# Altium footprint library camera-modules.PcbLib: 22 footprints (part 1 of 2)
Each footprint in its own frame and in the unit in brackets; x right, y up, seen from the top. Pads: shape width x height; smd on the part's side, far side on the other; paste and mask are expansions set on the pad; w line width, h text height; cw(c..) or ccw(c..) is an arc to the next point about the centre after c.
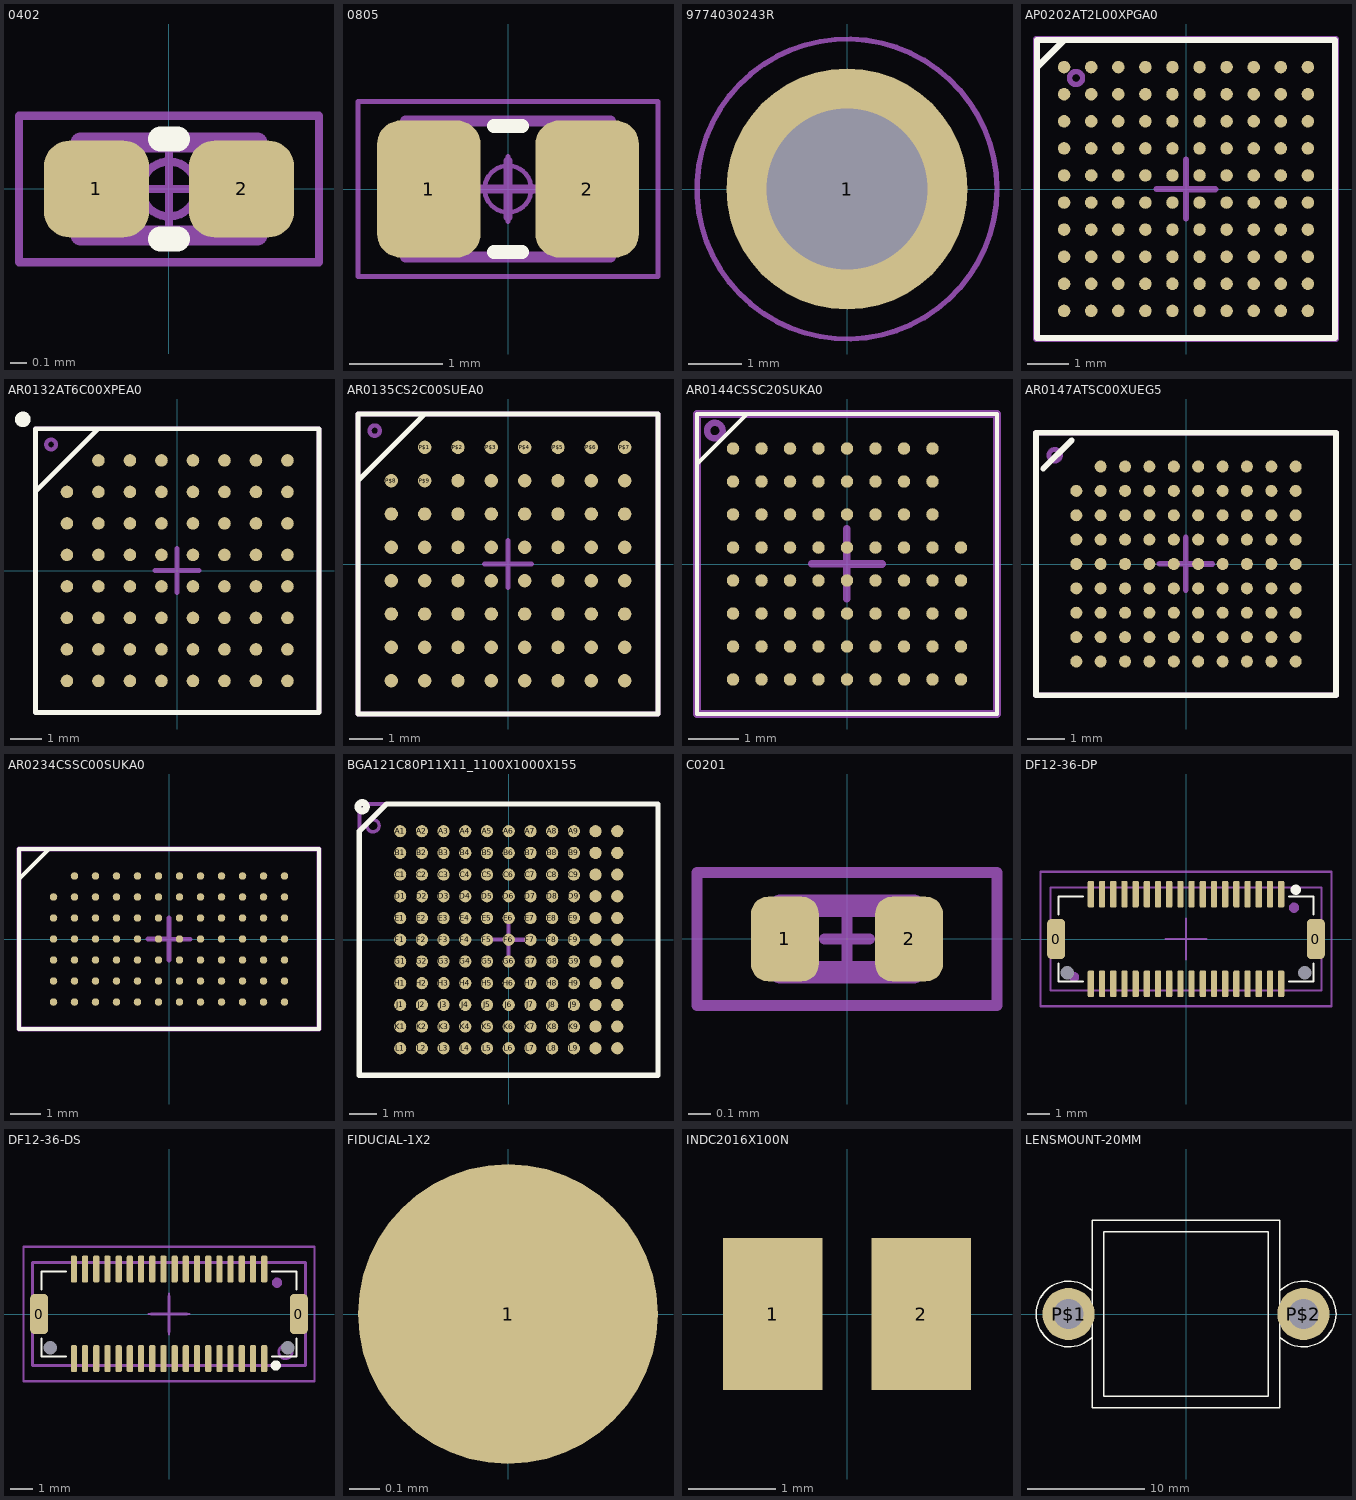
[diagram p0: the footprints below, top view; thin cyan lines are the x and y axes]

## 0402 [mm] "Chip Capacitor, 2-Leads, Body  0402 (in) 1005 (mm), IPC Medium Density"
height 0.5
pads (2):
  rrect52% 0.63x0.58 smd mask+0.05: 1(-0.435,0) 2(0.435,0)
Top Overlay:
  lines w0.15: -0.05,-0.3 0.05,-0.3 ; -0.05,0.3 0.05,0.3
Mechanical 13:
  lines w0.12: -0.53,-0.28 0.53,-0.28 0.53,0.28 -0.53,0.28 -0.53,-0.28
  text ".designator" at -0.432,-0.178 h0.3
Mechanical 15:
  circle w0.05: c0,0 r0.165
  lines w0.05: -0.22,0 0.22,0 ; 0,-0.22 0,0.22 ; -0.9,-0.44 0.9,-0.44 0.9,0.44 -0.9,0.44 -0.9,-0.44
3D body "CAP-0402.stp": height 0.5, standoff 0, extent -0.5,-0.25 0.5,0.25

## 0805 [mm] "Chip Capacitor, Body 0805 imperial, 2.0x1.2mm, IPC Medium Density"
height 0.7
pads (2):
  rrect45% 1.11x1.47 smd: 1(-0.85,0) 2(0.85,0)
Top Overlay:
  lines w0.15: -0.15,-0.675 0.15,-0.675 ; -0.15,0.675 0.15,0.675
Mechanical 13:
  lines w0.1: -0.3,0 0,0 ; 0,-0.3 0,0 ; 0,0.3 0,0 ; 0.3,0 0,0
  lines w0.12: -1.1,-0.73 -1.1,0.73 1.1,0.73 1.1,-0.73 -1.1,-0.73
  text ".designator" at -1,-0.625 h0.3
Mechanical 15:
  circle w0.05: c0,0 r0.25
  lines w0.05: -0.35,0 0.35,0 ; 0,-0.35 0,0.35 ; -1.61,-0.94 -1.61,0.94 1.61,0.94 1.61,-0.94 -1.61,-0.94
3D body "CAP-0805.stp": height 1.25, standoff 0, extent -1,-0.625 1,0.625

## 9774030243R [mm] "Round Standoff Threaded M2x0.4 Steel 0.118\" (3.00mm)"
pads (1):
  round 4.5 hole 3 unplated mask+0.05: 1(0,0)
Top Paste:
  circle w3: c0,0 r0.707
Mechanical 13:
  circle w0.1: c0,0 r1.25
  circle w0.1: c0,0 r2.175
  lines w0.1: -1.25,0 0,0 ; 0,-1.25 0,0 ; 0,1.25 0,0 ; 1.25,0 0,0
  text ".designator" at -0.9,1.3 h0.5
Mechanical 15:
  circle w0.1: c0,0 r2.8
  lines w0.1: -1.25,0 0,0 ; 0,-1.25 0,0 ; 0,1.25 0,0 ; 1.25,0 0,0
3D body "9774030243R (rev1).stp": height 3.01, standoff -1.39, extent -2.175,-2.172 2.175,2.172

## AP0202AT2L00XPGA0 [mm] "AP0202AT2L00XPGA0"
pads (100):
  rrect100% 0.3x0.3 smd: P$1(-2.925,2.925) P$2(-2.275,2.925) P$3(-1.625,2.925) P$4(-0.975,2.925) P$5(-0.325,2.925) P$6(0.325,2.925) P$7(0.975,2.925) P$8(1.625,2.925) P$9(2.275,2.925) P$10(2.925,2.925) P$11(-2.925,2.275) P$12(-2.275,2.275) P$13(-1.625,2.275) P$14(-0.975,2.275) P$15(-0.325,2.275) P$16(0.325,2.275) P$17(0.975,2.275) P$18(1.625,2.275) P$19(2.275,2.275) P$20(2.925,2.275) P$21(-2.925,1.625) P$22(-2.275,1.625) P$23(-1.625,1.625) P$24(-0.975,1.625) P$25(-0.325,1.625) P$26(0.325,1.625) P$27(0.975,1.625) P$28(1.625,1.625) P$29(2.275,1.625) P$30(2.925,1.625) P$31(-2.925,0.975) P$32(-2.275,0.975) P$33(-1.625,0.975) P$34(-0.975,0.975) P$35(-0.325,0.975) P$36(0.325,0.975) P$37(0.975,0.975) P$38(1.625,0.975) P$39(2.275,0.975) P$40(2.925,0.975) P$41(-2.925,0.325) P$42(-2.275,0.325) P$43(-1.625,0.325) P$44(-0.975,0.325) P$45(-0.325,0.325) P$46(0.325,0.325) P$47(0.975,0.325) P$48(1.625,0.325) P$49(2.275,0.325) P$50(2.925,0.325) P$51(-2.925,-0.325) P$52(-2.275,-0.325) P$53(-1.625,-0.325) P$54(-0.975,-0.325) P$55(-0.325,-0.325) P$56(0.325,-0.325) P$57(0.975,-0.325) P$58(1.625,-0.325) P$59(2.275,-0.325) P$60(2.925,-0.325) P$61(-2.925,-0.975) P$62(-2.275,-0.975) P$63(-1.625,-0.975) P$64(-0.975,-0.975) P$65(-0.325,-0.975) P$66(0.325,-0.975) P$67(0.975,-0.975) P$68(1.625,-0.975) P$69(2.275,-0.975) P$70(2.925,-0.975) P$71(-2.925,-1.625) P$72(-2.275,-1.625) P$73(-1.625,-1.625) P$74(-0.975,-1.625) P$75(-0.325,-1.625) P$76(0.325,-1.625) P$77(0.975,-1.625) P$78(1.625,-1.625) P$79(2.275,-1.625) P$80(2.925,-1.625) P$81(-2.925,-2.275) P$82(-2.275,-2.275) P$83(-1.625,-2.275) P$84(-0.975,-2.275) P$85(-0.325,-2.275) P$86(0.325,-2.275) P$87(0.975,-2.275) P$88(1.625,-2.275) P$89(2.275,-2.275) P$90(2.925,-2.275) P$91(-2.925,-2.925) P$92(-2.275,-2.925) P$93(-1.625,-2.925) P$94(-0.975,-2.925) P$95(-0.325,-2.925) P$96(0.325,-2.925) P$97(0.975,-2.925) P$98(1.625,-2.925) P$99(2.275,-2.925) P$100(2.925,-2.925)
Top Overlay:
  lines w0.152: -3.575,2.925 -2.925,3.575 ; -3.575,2.925 -3.575,3.575 -2.925,3.575 ; -3.575,2.925 -3.575,-3.575 3.575,-3.575 3.575,3.575 -2.925,3.575
Mechanical 13:
  circle w0.127: c-2.639,2.664 r0.156
  lines w0.152: -0.7,0 0,0 ; 0,-0.7 0,0 ; 0,0.7 0,0 ; 0.004,-0.004 0.704,-0.004 ; -3.6,-3.6 3.6,-3.6 3.6,3.6 -3.6,3.6 -3.6,-3.6
  text ".designator" at -2.196,1.246 h0.64
3D body: height 1, standoff 0, extent -3.6,-3.6 3.6,3.6

## AR0132AT6C00XPEA0 [mm] "AR0132AT6C00XPEA0"
pads (63):
  rrect100% 0.4x0.4 smd: P$1(-2.5,3.5) P$2(-1.5,3.5) P$3(-0.5,3.5) P$4(0.5,3.5) P$5(1.5,3.5) P$6(2.5,3.5) P$7(3.5,3.5) P$8(-3.5,2.5) P$9(-2.5,2.5) P$10(-1.5,2.5) P$11(-0.5,2.5) P$12(0.5,2.5) P$13(1.5,2.5) P$14(2.5,2.5) P$15(3.5,2.5) P$16(-3.5,1.5) P$17(-2.5,1.5) P$18(-1.5,1.5) P$19(-0.5,1.5) P$20(0.5,1.5) P$21(1.5,1.5) P$22(2.5,1.5) P$23(3.5,1.5) P$24(-3.5,0.5) P$25(-2.5,0.5) P$26(-1.5,0.5) P$27(-0.5,0.5) P$28(0.5,0.5) P$29(1.5,0.5) P$30(2.5,0.5) P$31(3.5,0.5) P$32(-3.5,-0.5) P$33(-2.5,-0.5) P$34(-1.5,-0.5) P$35(-0.5,-0.5) P$36(0.5,-0.5) P$37(1.5,-0.5) P$38(2.5,-0.5) P$39(3.5,-0.5) P$40(-3.5,-1.5) P$41(-2.5,-1.5) P$42(-1.5,-1.5) P$43(-0.5,-1.5) P$44(0.5,-1.5) P$45(1.5,-1.5) P$46(2.5,-1.5) P$47(3.5,-1.5) P$48(-3.5,-2.5) P$49(-2.5,-2.5) P$50(-1.5,-2.5) P$51(-0.5,-2.5) P$52(0.5,-2.5) P$53(1.5,-2.5) P$54(2.5,-2.5) P$55(3.5,-2.5) P$56(-3.5,-3.5) P$57(-2.5,-3.5) P$58(-1.5,-3.5) P$59(-0.5,-3.5) P$60(0.5,-3.5) P$61(1.5,-3.5) P$62(2.5,-3.5) P$63(3.5,-3.5)
Top Overlay:
  circle w0.25: c-4.9,4.8 r0.121
  lines w0.152: -4.5,2.5 -4.5,-4.5 4.5,-4.5 4.5,4.5 -2.5,4.5 ; -4.5,2.5 -4.5,4.5 -2.5,4.5 ; -4.5,2.5 -2.5,4.5
Mechanical 13:
  circle w0.127: c-4.004,4.004 r0.156
  lines w0.152: -0.704,0.004 -0.004,0.004 ; -0.004,-0.696 -0.004,0.004 ; -0.004,0.704 -0.004,0.004 ; 0,0 0.7,0 ; -4.504,-4.496 -4.504,4.504 4.496,4.504 4.496,-4.496 -4.504,-4.496
  text ".designator" at -4.104,-4.546 h0.64
3D body: height 1, standoff 0, extent -4.504,-4.496 4.496,4.504

## AR0135CS2C00SUEA0 [mm] "AR0135CS2C00SUEA0"
pads (63):
  rrect100% 0.4x0.4 smd: P$1(-2.5,3.5) P$2(-1.5,3.5) P$3(-0.5,3.5) P$4(0.5,3.5) P$5(1.5,3.5) P$6(2.5,3.5) P$7(3.5,3.5) P$8(-3.5,2.5) P$9(-2.5,2.5) P$10(-1.5,2.5) P$11(-0.5,2.5) P$12(0.5,2.5) P$13(1.5,2.5) P$14(2.5,2.5) P$15(3.5,2.5) P$16(-3.5,1.5) P$17(-2.5,1.5) P$18(-1.5,1.5) P$19(-0.5,1.5) P$20(0.5,1.5) P$21(1.5,1.5) P$22(2.5,1.5) P$23(3.5,1.5) P$24(-3.5,0.5) P$25(-2.5,0.5) P$26(-1.5,0.5) P$27(-0.5,0.5) P$28(0.5,0.5) P$29(1.5,0.5) P$30(2.5,0.5) P$31(3.5,0.5) P$32(-3.5,-0.5) P$33(-2.5,-0.5) P$34(-1.5,-0.5) P$35(-0.5,-0.5) P$36(0.5,-0.5) P$37(1.5,-0.5) P$38(2.5,-0.5) P$39(3.5,-0.5) P$40(-3.5,-1.5) P$41(-2.5,-1.5) P$42(-1.5,-1.5) P$43(-0.5,-1.5) P$44(0.5,-1.5) P$45(1.5,-1.5) P$46(2.5,-1.5) P$47(3.5,-1.5) P$48(-3.5,-2.5) P$49(-2.5,-2.5) P$50(-1.5,-2.5) P$51(-0.5,-2.5) P$52(0.5,-2.5) P$53(1.5,-2.5) P$54(2.5,-2.5) P$55(3.5,-2.5) P$56(-3.5,-3.5) P$57(-2.5,-3.5) P$58(-1.5,-3.5) P$59(-0.5,-3.5) P$60(0.5,-3.5) P$61(1.5,-3.5) P$62(2.5,-3.5) P$63(3.5,-3.5)
Top Overlay:
  lines w0.152: -4.5,2.5 -2.5,4.5 ; -4.5,2.5 -4.5,4.5 -2.5,4.5 ; -4.5,2.5 -4.5,-4.5 4.5,-4.5 4.5,4.5 -2.5,4.5
Mechanical 13:
  circle w0.127: c-4,4 r0.156
  lines w0.152: -0.7,0 0,0 ; 0,-0.7 0,0 ; 0,0.7 0,0 ; 0.004,-0.004 0.704,-0.004 ; -4.5,-4.5 -4.5,4.5 4.5,4.5 4.5,-4.5 -4.5,-4.5
  text ".designator" at -4.1,-4.55 h0.64
3D body: height 1, standoff 0, extent -4.5,-4.5 4.5,4.5

## AR0144CSSC20SUKA0 [mm] "AR0144CSSC20SUKA0"
pads (69):
  rrect100% 0.25x0.25 smd: P$1(-2.28,2.31) P$2(-1.71,2.31) P$3(-1.14,2.31) P$4(-0.57,2.31) P$5(0,2.31) P$6(0.57,2.31) P$7(1.14,2.31) P$8(1.71,2.31) P$9(-2.28,1.65) P$10(-1.71,1.65) P$11(-1.14,1.65) P$12(-0.57,1.65) P$13(0,1.65) P$14(0.57,1.65) P$15(1.14,1.65) P$16(1.71,1.65) P$17(-2.28,0.99) P$18(-1.71,0.99) P$19(-1.14,0.99) P$20(-0.57,0.99) P$21(0,0.99) P$22(0.57,0.99) P$23(1.14,0.99) P$24(1.71,0.99) P$25(-2.28,0.33) P$26(-1.71,0.33) P$27(-1.14,0.33) P$28(-0.57,0.33) P$29(0,0.33) P$30(0.57,0.33) P$31(1.14,0.33) P$32(1.71,0.33) P$33(2.28,0.33) P$34(-2.28,-0.33) P$35(-1.71,-0.33) P$36(-1.14,-0.33) P$37(-0.57,-0.33) P$38(0,-0.33) P$39(0.57,-0.33) P$40(1.14,-0.33) P$41(1.71,-0.33) P$42(2.28,-0.33) P$43(-2.28,-0.99) P$44(-1.71,-0.99) P$45(-1.14,-0.99) P$46(-0.57,-0.99) P$47(0,-0.99) P$48(0.57,-0.99) P$49(1.14,-0.99) P$50(1.71,-0.99) P$51(2.28,-0.99) P$52(-2.28,-1.65) P$53(-1.71,-1.65) P$54(-1.14,-1.65) P$55(-0.57,-1.65) P$56(0,-1.65) P$57(0.57,-1.65) P$58(1.14,-1.65) P$59(1.71,-1.65) P$60(2.28,-1.65) P$61(-2.28,-2.31) P$62(-1.71,-2.31) P$63(-1.14,-2.31) P$64(-0.57,-2.31) P$65(0,-2.31) P$66(0.57,-2.31) P$67(1.14,-2.31) P$68(1.71,-2.31) P$69(2.28,-2.31)
Top Overlay:
  lines w0.076: -3,2 -3,3 -2,3 ; -3,2 -3,-3 3,-3 3,3 -2,3 ; -3,2 -2,3
Mechanical 13:
  circle w0.127: c-2.643,2.668 r0.156
  lines w0.152: -0.704,0.004 -0.004,0.004 ; -0.004,-0.696 -0.004,0.004 ; -0.004,0.704 -0.004,0.004 ; 0,0 0.7,0 ; -3,-3 -3,3 3,3 3,-3 -3,-3
  text ".designator" at -2.2,1.25 h0.64
3D body: height 1, standoff 0, extent -3,-3 3,3

## AR0147ATSC00XUEG5 [mm] "AR0147ATSC00XUEG5"
pads (89):
  rrect100% 0.32x0.32 smd: P$1(-2.275,2.6) P$2(-1.625,2.6) P$3(-0.975,2.6) P$4(-0.325,2.6) P$5(0.325,2.6) P$6(0.975,2.6) P$7(1.625,2.6) P$8(2.275,2.6) P$9(2.925,2.6) P$10(-2.925,1.95) P$11(-2.275,1.95) P$12(-1.625,1.95) P$13(-0.975,1.95) P$14(-0.325,1.95) P$15(0.325,1.95) P$16(0.975,1.95) P$17(1.625,1.95) P$18(2.275,1.95) P$19(2.925,1.95) P$20(-2.925,1.3) P$21(-2.275,1.3) P$22(-1.625,1.3) P$23(-0.975,1.3) P$24(-0.325,1.3) P$25(0.325,1.3) P$26(0.975,1.3) P$27(1.625,1.3) P$28(2.275,1.3) P$29(2.925,1.3) P$30(-2.925,0.65) P$31(-2.275,0.65) P$32(-1.625,0.65) P$33(-0.975,0.65) P$34(-0.325,0.65) P$35(0.325,0.65) P$36(0.975,0.65) P$37(1.625,0.65) P$38(2.275,0.65) P$39(2.925,0.65) P$40(-2.925,0) P$41(-2.275,0) P$42(-1.625,0) P$43(-0.975,0) P$44(-0.325,0) P$45(0.325,0) P$46(0.975,0) P$47(1.625,0) P$48(2.275,0) P$49(2.925,0) P$50(-2.925,-0.65) P$51(-2.275,-0.65) P$52(-1.625,-0.65) P$53(-0.975,-0.65) P$54(-0.325,-0.65) P$55(0.325,-0.65) P$56(0.975,-0.65) P$57(1.625,-0.65) P$58(2.275,-0.65) P$59(2.925,-0.65) P$60(-2.925,-1.3) P$61(-2.275,-1.3) P$62(-1.625,-1.3) P$63(-0.975,-1.3) P$64(-0.325,-1.3) P$65(0.325,-1.3) P$66(0.975,-1.3) P$67(1.625,-1.3) P$68(2.275,-1.3) P$69(2.925,-1.3) P$70(-2.925,-1.95) P$71(-2.275,-1.95) P$72(-1.625,-1.95) P$73(-0.975,-1.95) P$74(-0.325,-1.95) P$75(0.325,-1.95) P$76(0.975,-1.95) P$77(1.625,-1.95) P$78(2.275,-1.95) P$79(2.925,-1.95) P$80(-2.925,-2.6) P$81(-2.275,-2.6) P$82(-1.625,-2.6) P$83(-0.975,-2.6) P$84(-0.325,-2.6) P$85(0.325,-2.6) P$86(0.975,-2.6) P$87(1.625,-2.6) P$88(2.275,-2.6) P$89(2.925,-2.6)
Top Overlay:
  lines w0.152: -3.81,2.54 -3.048,3.302 ; -4,-3.5 -4,3.5 4,3.5 4,-3.5 -4,-3.5
Mechanical 13:
  circle w0.127: c-3.5,2.9 r0.156
  lines w0.152: -0.704,0.004 -0.004,0.004 ; -0.004,-0.696 -0.004,0.004 ; -0.004,0.704 -0.004,0.004 ; 0,0 0.7,0 ; -4,-3.5 -4,3.5 4,3.5 4,-3.5 -4,-3.5
  text ".designator" at -3,2.05 h0.64
3D body: height 1, standoff 0, extent -4,-3.5 4,3.5

## AR0234CSSC00SUKA0 [mm] "AR0234CSSC00SUKA0"
pads (83):
  rrect100% 0.25x0.25 smd mask+0.051: P$1(-3.15,2.1) P$2(-2.45,2.1) P$3(-1.75,2.1) P$4(-1.05,2.1) P$5(-0.35,2.1) P$6(0.35,2.1) P$7(1.05,2.1) P$8(1.75,2.1) P$9(2.45,2.1) P$10(3.15,2.1) P$11(3.85,2.1) P$12(-3.85,1.4) P$13(-3.15,1.4) P$14(-2.45,1.4) P$15(-1.75,1.4) P$16(-1.05,1.4) P$17(-0.35,1.4) P$18(0.35,1.4) P$19(1.05,1.4) P$20(1.75,1.4) P$21(2.45,1.4) P$22(3.15,1.4) P$23(3.85,1.4) P$24(-3.85,0.7) P$25(-3.15,0.7) P$26(-2.45,0.7) P$27(-1.75,0.7) P$28(-1.05,0.7) P$29(-0.35,0.7) P$30(0.35,0.7) P$31(1.05,0.7) P$32(1.75,0.7) P$33(2.45,0.7) P$34(3.15,0.7) P$35(3.85,0.7) P$36(-3.85,0) P$37(-3.15,0) P$38(-2.45,0) P$39(-1.75,0) P$40(-1.05,0) P$41(-0.35,0) P$42(0.35,0) P$43(1.05,0) P$44(1.75,0) P$45(2.45,0) P$46(3.15,0) P$47(3.85,0) P$48(-3.85,-0.7) P$49(-3.15,-0.7) P$50(-2.45,-0.7) P$51(-1.75,-0.7) P$52(-1.05,-0.7) P$53(-0.35,-0.7) P$54(0.35,-0.7) P$55(1.05,-0.7) P$56(1.75,-0.7) P$57(2.45,-0.7) P$58(3.15,-0.7) P$59(3.85,-0.7) P$60(-3.85,-1.4) P$61(-3.15,-1.4) P$62(-2.45,-1.4) P$63(-1.75,-1.4) P$64(-1.05,-1.4) P$65(-0.35,-1.4) P$66(0.35,-1.4) P$67(1.05,-1.4) P$68(1.75,-1.4) P$69(2.45,-1.4) P$70(3.15,-1.4) P$71(3.85,-1.4) P$72(-3.85,-2.1) P$73(-3.15,-2.1) P$74(-2.45,-2.1) P$75(-1.75,-2.1) P$76(-1.05,-2.1) P$77(-0.35,-2.1) P$78(0.35,-2.1) P$79(1.05,-2.1) P$80(1.75,-2.1) P$81(2.45,-2.1) P$82(3.15,-2.1) P$83(3.85,-2.1)
Top Overlay:
  lines w0.127: -5,2 -5,-3 5,-3 5,3 -4,3 ; -5,2 -5,3 -4,3 ; -5,2 -4,3
Mechanical 13:
  lines w0.152: -0.7,0 0,0 ; 0,-0.7 0,0 ; 0,0.7 0,0 ; 0.004,-0.004 0.704,-0.004 ; -5,-3 -5,3 5,3 5,-3 -5,-3
  text ".designator" at -3.3,1.15 h0.64
3D body: height 1, standoff 0, extent -5,-3 5,3

## BGA121C80P11X11_1100X1000X155 [mm] "BGA121C80P11X11_1100X1000X155"
pads (121):
  rrect100% 0.45x0.45 smd: A1(-4,4) A2(-3.2,4) A3(-2.4,4) A4(-1.6,4) A5(-0.8,4) A6(0,4) A7(0.8,4) A8(1.6,4) A9(2.4,4) A10(3.2,4) A11(4,4) B1(-4,3.2) B2(-3.2,3.2) B3(-2.4,3.2) B4(-1.6,3.2) B5(-0.8,3.2) B6(0,3.2) B7(0.8,3.2) B8(1.6,3.2) B9(2.4,3.2) B10(3.2,3.2) B11(4,3.2) C1(-4,2.4) C2(-3.2,2.4) C3(-2.4,2.4) C4(-1.6,2.4) C5(-0.8,2.4) C6(0,2.4) C7(0.8,2.4) C8(1.6,2.4) C9(2.4,2.4) C10(3.2,2.4) C11(4,2.4) D1(-4,1.6) D2(-3.2,1.6) D3(-2.4,1.6) D4(-1.6,1.6) D5(-0.8,1.6) D6(0,1.6) D7(0.8,1.6) D8(1.6,1.6) D9(2.4,1.6) D10(3.2,1.6) D11(4,1.6) E1(-4,0.8) E2(-3.2,0.8) E3(-2.4,0.8) E4(-1.6,0.8) E5(-0.8,0.8) E6(0,0.8) E7(0.8,0.8) E8(1.6,0.8) E9(2.4,0.8) E10(3.2,0.8) E11(4,0.8) F1(-4,0) F2(-3.2,0) F3(-2.4,0) F4(-1.6,0) F5(-0.8,0) F6(0,0) F7(0.8,0) F8(1.6,0) F9(2.4,0) F10(3.2,0) F11(4,0) G1(-4,-0.8) G2(-3.2,-0.8) G3(-2.4,-0.8) G4(-1.6,-0.8) G5(-0.8,-0.8) G6(0,-0.8) G7(0.8,-0.8) G8(1.6,-0.8) G9(2.4,-0.8) G10(3.2,-0.8) G11(4,-0.8) H1(-4,-1.6) H2(-3.2,-1.6) H3(-2.4,-1.6) H4(-1.6,-1.6) H5(-0.8,-1.6) H6(0,-1.6) H7(0.8,-1.6) H8(1.6,-1.6) H9(2.4,-1.6) H10(3.2,-1.6) H11(4,-1.6) J1(-4,-2.4) J2(-3.2,-2.4) J3(-2.4,-2.4) J4(-1.6,-2.4) J5(-0.8,-2.4) J6(0,-2.4) J7(0.8,-2.4) J8(1.6,-2.4) J9(2.4,-2.4) J10(3.2,-2.4) J11(4,-2.4) K1(-4,-3.2) K2(-3.2,-3.2) K3(-2.4,-3.2) K4(-1.6,-3.2) K5(-0.8,-3.2) K6(0,-3.2) K7(0.8,-3.2) K8(1.6,-3.2) K9(2.4,-3.2) K10(3.2,-3.2) K11(4,-3.2) L1(-4,-4) L2(-3.2,-4) L3(-2.4,-4) L4(-1.6,-4) L5(-0.8,-4) L6(0,-4) L7(0.8,-4) L8(1.6,-4) L9(2.4,-4) L10(3.2,-4) L11(4,-4)
Top Overlay:
  circle w0.254: c-5.4,4.9 r0.153
  lines w0.2: -5.5,-5 5.5,-5 5.5,5 -4.5,5 -5.5,4 -5.5,-5
Mechanical 13:
  circle w0.127: c-5,4.2 r0.224
  lines w0.152: -0.704,0.004 -0.004,0.004 ; -0.004,-0.696 -0.004,0.004 ; -0.004,0.704 -0.004,0.004 ; 0,0 0.7,0 ; -5.5,-5 5.5,-5 5.5,5 -5.5,5 -5.5,-5
  text ".designator" at -3.304,1.154 h0.64
3D body: height 1, standoff 0, extent -5.5,-5 5.5,5

## C0201 [mil] "0201 IPC-7351"
height 10.24
pads (2):
  rrect50% 12x15 smd mask+1.97: 1(-11,0) 2(11,0)
Mechanical 13:
  lines w3.94: -11.81,-5.91 -11.81,5.91 11.81,5.91 11.81,-5.91 -11.81,-5.91
  text ".designator" at -7.87,-2.95 h15.75
Mechanical 15:
  lines w1.97: -3.94,0 0,0 ; 0,-3.94 0,0 ; 0,3.94 0,0 ; 3.94,0 0,0 ; -26.57,-11.81 -26.57,11.81 26.57,11.81 26.57,-11.81 -26.57,-11.81
3D body "C0201_035.step": height 13.78, standoff 0, extent -11.81,-5.88 11.81,5.92

## DF12-36-DP [mm] "36 Position Connector Receptacle, Center Strip Contacts Surface Mount Gold"
pads (40):
  rrect50% 0.8x1.8 smd mask+0.05: 0(-5.8,0) 0(5.8,0)
  rrect50% 0.28x1.2 smd mask+0.05: 1(4.25,2) 2(4.25,-2) 3(3.75,2) 4(3.75,-2) 5(3.25,2) 6(3.25,-2) 7(2.75,2) 8(2.75,-2) 9(2.25,2) 10(2.25,-2) 11(1.75,2) 12(1.75,-2) 13(1.25,2) 14(1.25,-2) 15(0.75,2) 16(0.75,-2) 17(0.25,2) 18(0.25,-2) 19(-0.25,2) 20(-0.25,-2) 21(-0.75,2) 22(-0.75,-2) 23(-1.25,2) 24(-1.25,-2) 25(-1.75,2) 26(-1.75,-2) 27(-2.25,2) 28(-2.25,-2) 29(-2.75,2) 30(-2.75,-2) 31(-3.25,2) 32(-3.25,-2) 33(-3.75,2) 34(-3.75,-2) 35(-4.25,2) 36(-4.25,-2)
  round 0 hole 0.6 unplated: MH1(-5.3,-1.5) MH2(5.3,-1.5)
Top Overlay:
  circle w0.254: c4.9,2.2 r0.1
  lines w0.1: -5.7,-1.1 -5.7,-1.9 -4.6,-1.9 ; -5.7,1.1 -5.7,1.9 -4.6,1.9 ; 4.6,-1.9 5.7,-1.9 5.7,-1.1 ; 4.6,1.9 5.7,1.9 5.7,1.1
Mechanical 13:
  circle w0.254: c-5,-1.7 r0.1
  lines w0.1: -0.9,0 0,0 ; 0,-0.9 0,0 ; 0,0.9 0,0 ; 0.9,0 0,0 ; -6.05,-2.3 -6.05,2.3 6.05,2.3 6.05,-2.3 -6.05,-2.3
  text ".designator" at -0.9,-3 h0.5
Mechanical 15:
  circle w0.254: c4.826,1.397 r0.1
  lines w0.1: -0.9,0 0,0 ; 0,-0.9 0,0 ; 0,0.9 0,0 ; 0.9,0 0,0 ; -6.5,-3 6.5,-3 6.5,3 -6.5,3 -6.5,-3
3D body "DF12NB_3.0_-36DP-0.5V_51_.step": height 2.3, standoff 0, extent -6.05,-2.3 6.05,2.3

## DF12-36-DS [mm] "36 Position Connector Receptacle, Center Strip Contacts Surface Mount Gold"
pads (40):
  rrect50% 0.8x1.8 smd mask+0.05: 0(-5.8,0) 0(5.8,0)
  rrect50% 0.28x1.2 smd mask+0.05: 1(4.252,-1.993) 2(4.252,2.007) 3(3.752,-1.993) 4(3.752,2.007) 5(3.252,-1.993) 6(3.252,2.007) 7(2.752,-1.993) 8(2.752,2.007) 9(2.252,-1.993) 10(2.252,2.007) 11(1.752,-1.993) 12(1.752,2.007) 13(1.252,-1.993) 14(1.252,2.007) 15(0.752,-1.993) 16(0.752,2.007) 17(0.252,-1.993) 18(0.252,2.007) 19(-0.248,-1.993) 20(-0.248,2.007) 21(-0.748,-1.993) 22(-0.748,2.007) 23(-1.248,-1.993) 24(-1.248,2.007) 25(-1.748,-1.993) 26(-1.748,2.007) 27(-2.248,-1.993) 28(-2.248,2.007) 29(-2.748,-1.993) 30(-2.748,2.007) 31(-3.248,-1.993) 32(-3.248,2.007) 33(-3.748,-1.993) 34(-3.748,2.007) 35(-4.248,-1.993) 36(-4.248,2.007)
  round 0 hole 0.6 unplated: MH1(-5.3,-1.5) MH2(5.3,-1.5)
Top Overlay:
  circle w0.254: c4.77,-2.3 r0.1
  lines w0.1: -5.7,-1.1 -5.7,-1.9 -4.6,-1.9 ; -5.7,1.1 -5.7,1.9 -4.6,1.9 ; 4.6,-1.9 5.7,-1.9 5.7,-1.1 ; 4.6,1.9 5.7,1.9 5.7,1.1
Mechanical 13:
  circle w0.127: c5.2,-1.7 r0.3
  lines w0.127: -0.8,0 0,0 ; 0,-0.8 0,0 ; 0,0.8 0,0 ; 0.8,0 0,0 ; -6.1,-2.3 6.1,-2.3 6.1,2.3 -6.1,2.3 -6.1,-2.3
  text ".designator" at -5.5,-2.25 h0.64
Mechanical 15:
  circle w0.254: c4.826,1.397 r0.1
  lines w0.1: -0.9,0 0,0 ; 0,-0.9 0,0 ; 0,0.9 0,0 ; 0.9,0 0,0 ; -6.5,-3 6.5,-3 6.5,3 -6.5,3 -6.5,-3
3D body "DF12NB-36DS-0.5V.stp": height 2.7, standoff 0, extent -6.05,-2.3 6.05,2.3

## FIDUCIAL-1X2 [mm] "FIDUCIAL-1X2"
pads (1):
  rrect100% 1x1 smd paste+0: 1(0,0)

## INDC2016X100N [mm] "INDC2016X100N"
pads (2):
  rect 1.14x1.73 smd: 1(-0.847,0) 2(0.847,0)
3D body: height 1, standoff 0, extent -1,-0.8 1,0.8

## LENSMOUNT-20MM [mm] "LENSMOUNT-20MM"
pads (2):
  round 4.445 / inner round 0 / far side round 4.445 hole 2.54: P$1(-10,0) P$2(10,0)
Top Overlay:
  lines w0.127: -8,-1.977 cw(c-9.977,0) -8,1.977 ; -8,-1.977 -8,-8 8,-8 8,-1.977 ; -8,-1.977 -8,1.977 ; -8,1.977 -8,8 8,8 8,1.977 ; 8,-1.977 ccw(c9.977,0) 8,1.977 ; 8,-1.977 8,1.977 ; -7,-7 7,-7 7,7 -7,7 -7,-7